# Altium integrated library SummerWorkshop.IntLib: 2 symbols
Pins are listed as number, name and electrical type; pins without a type are passive.

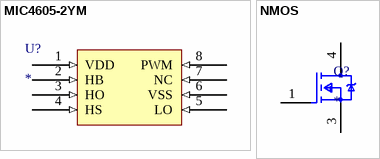
[diagram p0: symbols MIC4605-2YM to NMOS]

## MIC4605-2YM
designator U?
Driver 1A 2-OUT High and Low Side Half Brdg Non-Inv 8-Pin SOIC N Tube; Manufacturer: Microchip; Manufacturer Part Number: MIC4605-2YM-T5; Number of Drivers: 2; Max Supply Voltage: 16V; Min Supply Voltage: 5.5V; Number of Outputs: 1; Rise Time: 20ns; Nominal Supply Current: 135uA; Output Voltage: 1.9V; Element Configuration: Single; Propagation Delay: 35ns; Channel Type: Independent; Supplier 1: Digi-Key; RoHS: Yes; Category: Gate Drivers; Pricing 1: 1=1.39000 (USD); Mount: Surface Mount; Case/Package: SOIC; Number of Pins: 8; Min Operating Temperature: -40°C; Max Operating Temperature: 125°C; Packaging: Tape and Reel; Package Quantity: 500; Max Output Current: 1A; Fall Time: 20ns; Length: 4.93mm; Width: 3.94mm; Height: 1.63mm; Radiation Hardening: No; RoHS Compliant: Yes; Lead Free: Lead Free; ComponentLink1URL: https://datasheet.ciiva.com/26948/getdatasheetpartid-789737-26948139.pdf?src-supplier=Verical; ComponentLink1Description: https://datasheet.ciiva.com/26948/getdatasheetpartid-789737-26948139.pdf?src-supplier=Verical; Supplier 2: Digi-Key; Stock 2: 88; Pricing 2: 1=0.95000, 25=0.78440, 100=0.72080 (USD); REACH SVHC: No SVHC; ComponentLink2URL: https://datasheet.ciiva.com/28655/1785059-28655117.pdf?src-supplier=Element14; ComponentLink2Description: https://datasheet.ciiva.com/28655/1785059-28655117.pdf?src-supplier=Element14
footprint MIC4605-2YM
pins: 1 VDD (in) "Input Supply for Gate Drivers", 2 HB (in) "High-Side Bootstrap Supply", 3 HO (in) "High-Side Drive Output", 4 HS (in) "High-Side Reference Connection", 5 LO (in) "Low-Side Drive Output", 6 VSS (in) "Drive Reference Supply Input. Generally connect to power ground", 7 NC (in) "No Connect", 8 PWM (in) "Single PWM Input"

## NMOS
designator Q?
Single N-Channel 60V 15.8 mOhm 22 nC HEXFET® Power Mosfet - D2PAK; Manufacturer: Infineon; Manufacturer Part Number: IRFS3806TRLPBF; Continuous Drain Current (ID): 43A; Turn-Off Delay Time: 49ns; Turn-On Delay Time: 6.3ns; Gate to Source Voltage (Vgs): 20V; Rds On Max: 15.8mR; Input Capacitance: 1.15nF; Max Power Dissipation: 71W; Supplier 1: Digi-Key; Supplier 2: Digi-Key; RoHS: Yes; Category: MOSFETs; Stock 2: 500; Pricing 2: 1=1.40000, 10=1.25200, 100=0.97650 (USD); Mount: Surface Mount; Case/Package: D2PAK; Number of Pins: 3; Min Operating Temperature: -55°C; Max Operating Temperature: 175°C; Packaging: Tape and Reel; Drain to Source Voltage (Vdss): 60V; Power Dissipation: 71W; Drain to Source Resistance: 15.8mR; Max Dual Supply Voltage: 60V; Length: 0.42inch; Width: 0.38inch; Height: 0.19inch; Lead Free: Contains Lead; RoHS Compliant: Yes; Halogen Free: Halogen Free; ComponentLink1URL: http://www.farnell.com/datasheets/44036.pdf?src-supplier=Farnell; ComponentLink1Description: http://www.farnell.com/datasheets/44036.pdf?src-supplier=Farnell; ComponentLink2URL: https://www.alliedelec.com/m/d/06bed90ab4252f6c7a4191c63da86f41.pdf?src-supplier=Allied+Electronics; ComponentLink2Description: https://www.alliedelec.com/m/d/06bed90ab4252f6c7a4191c63da86f41.pdf?src-supplier=Allied+Electronics; ComponentLink3URL: http://www.infineon.com/dgdl/irfs3806pbf.pdf?fileId=5546d462533600a401535636ace4217a&src-supplier=Digi-Key; ComponentLink3Description: http://www.infineon.com/dgdl/irfs3806pbf.pdf?fileId=5546d462533600a401535636ace4217a&src-supplier=Digi-Key; ComponentLink4URL: https://www.infineon.com/dgdl/irfs3806pbf.pdf?fileId=5546d462533600a401535636ace4217a&src-supplier=Digi-Key; ComponentLink4Description: https://www.infineon.com/dgdl/irfs3806pbf.pdf?fileId=5546d462533600a401535636ace4217a&src-supplier=Digi-Key; ComponentLink5URL: http://www.farnell.com/datasheets/44036.pdf?src-supplier=Newark; ComponentLink5Description: http://www.farnell.com/datasheets/44036.pdf?src-supplier=Newark; Supplier 3: Digi-Key; Stock 3: 500; Pricing 3: 1=1.40000, 10=1.25200, 100=0.97650 (USD)
footprint IRFS3806TRLPBFCT-ND
pins: 1 G, 3 S, 4 D